# Altium integrated library altum-senior-project-large.IntLib: 23 symbols
Pins are listed as number, name and electrical type; pins without a type are passive.

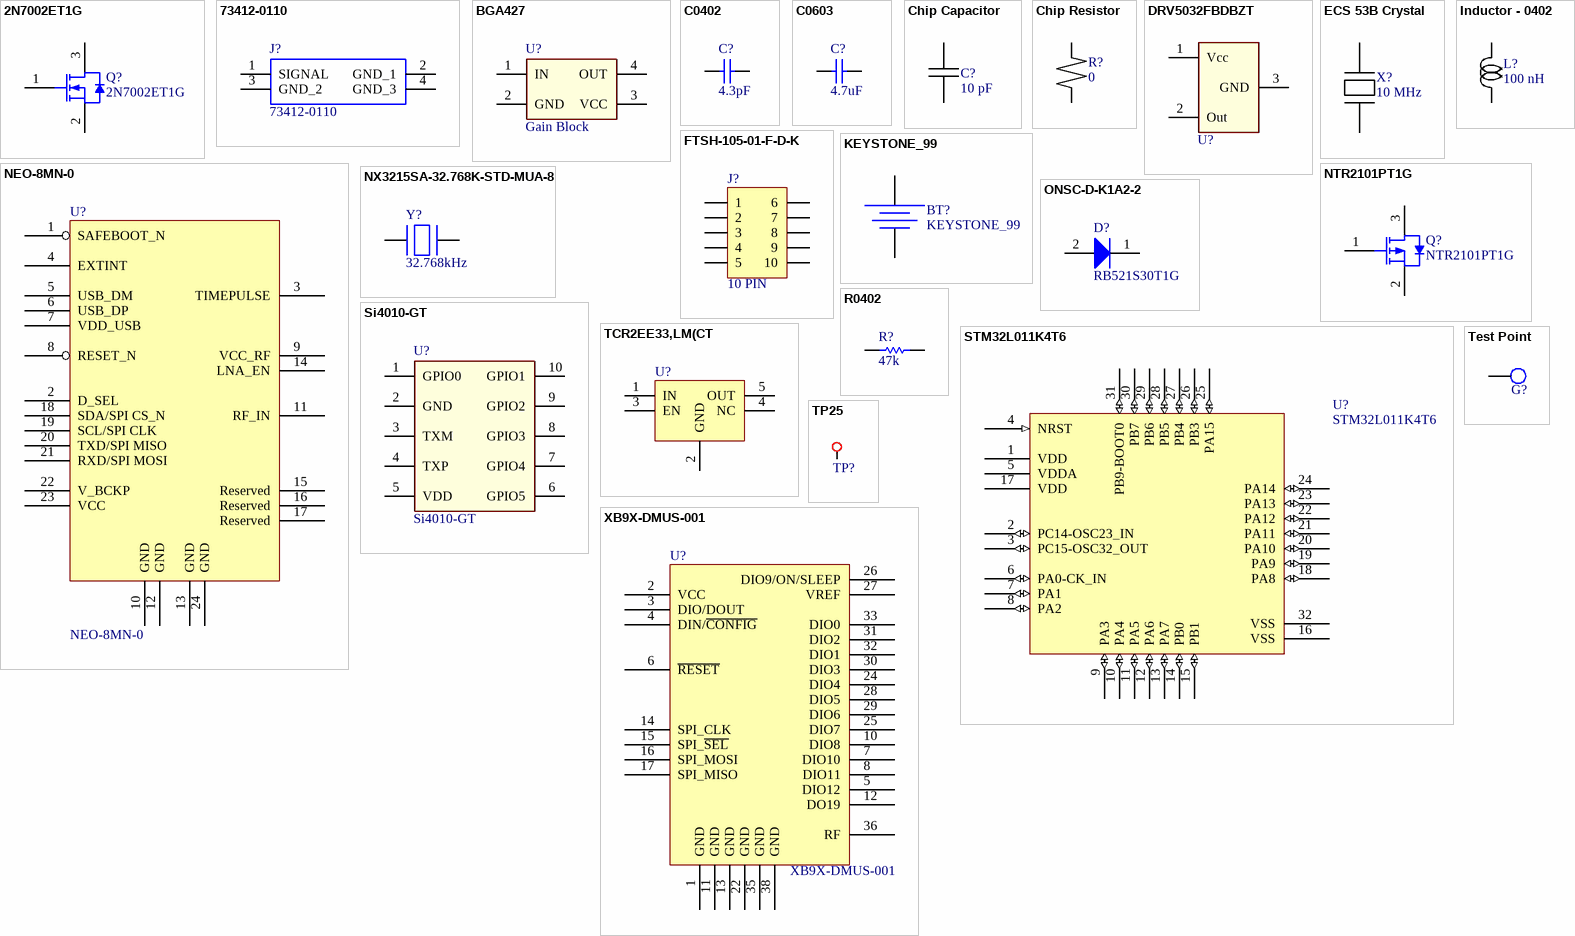
[diagram p0: symbols 2N7002ET1G to XB9X-DMUS-001]

## 2N7002ET1G
designator Q?
Small Signal MOSFET, 60 V, 310 mA, Single, N-Channel, 3-Pin SOT-23, Pb-Free, Tape and Reel; Manufacturer: On Semiconductor; Channel Polarity: N Channel; Ciss Typ (pF): 26.7; Coss Typ (pF): 4.6; Crss Typ (pF): 2.9; ID Max (A): 0.31; V(BR)DSS Min (V): 60; VGS Max (V): 20; VGS(th) Max (V): 2.5; DatasheetVersion: Rev. 3; PackageVersion: Rev. AP, 11/2009; PackageReference: SOT-23-3-318-08; PackageDescription: 3-Pin Small Outline Transistor, Body 2.92 x 1.3 mm, Pitch 0.95 mm; Supplier 1: Digi-Key; Supplier Part Number 1: 2N7002ET1GOSTR-ND; Supplier 2: Digi-Key; Supplier Part Number 2: 2N7002ET1GOSCT-ND; Supplier 3: Digi-Key; Supplier Part Number 3: 2N7002ET1GOSDKR-ND; Supplier 4: Farnell; Supplier Part Number 4: 2317895; Supplier 5: Farnell; Supplier Part Number 5: 2317616; Supplier 6: Newark; Supplier Part Number 6: 09R9861; Supplier 7: Newark; Supplier Part Number 7: 50M2216; Supplier 8: Mouser; Supplier Part Number 8: 863-2N7002ET1G; Configuration: Single; Package Type: SOT-23-3; Packing: Tape and Reel; RoHS: Pb-Free; Mounting Technology: Surface Mount; PartNumber: 2N7002ET1G; ComponentLink1Description: Manufacturer URL; ComponentLink1URL: http://www.onsemi.com/; ComponentLink2Description: Datasheet; ComponentLink2URL: http://www.onsemi.com/pub_link/Collateral/2N7002E-D.PDF; ComponentLink3Description: Package Specification; ComponentLink3URL: http://www.onsemi.cn/pub_link/Collateral/318-08.PDF
footprint ONSC-SOT-23-3-318-08_V (SOT23, 3-Leads, Body 2.92x1.3mm, Pitch 0.95mm)
pins: 1 G, 2 S, 3 D

## 73412-0110
designator J?
50 Ohms, MCRF, PCB Vertical Jack Receptacle, SMT, 1.25mm Mounted Height; Manufacturer_Name: Molex; Allied_Number: 70357960; Manufacturer_Part_Number: 73412-0110; RS Part Number: 1676350; RS Price/Stock: http://uk.rs-online.com/web/p/products/1676350; Allied Price/Stock: https://www.alliedelec.com/molex-incorporated-73412-0110/70357960/; Mouser Part Number: 538-73412-0110; Mouser Price/Stock: https://www.mouser.com/Search/Refine.aspx?Keyword=538-73412-0110; Datasheet Link: http://www.molex.com/pdm_docs/sd/734120110_sd.pdf
footprint 73412-0110
pins: 1 SIGNAL, 2 GND_1, 3 GND_2, 4 GND_3

## BGA427
designator U?, comment Gain Block
Manufacturer: Infineon; Manufacturer PN: BGA427H6327XTSA1; Value: *; Price: 0.84; Vendor: *; Vendor PN: *
footprint BGA427
pins: 1 IN, 2 GND, 3 VCC, 4 OUT

## C0402
designator C?  value 4.3pF  (hidden comment: C0402)
0402 Ceramic Chip Capacitor - Standard
simulation model CAP (Capacitor)
signal-integrity model C0402
footprint 0402cap (Chip Capacitor; Body 1.0 x 0.5 mm (LxW typ))
pins: 1, 2

## C0603
designator C?  value 4.7uF  (hidden comment: C0603)
0603 Ceramic Chip Capacitor - Standard
simulation model CAP (Capacitor)
signal-integrity model C0603
footprint 0603CAP (Chip Capacitor; Body 1.6 x 0.8 mm (LxW typ))
pins: 1, 2

## Chip Capacitor
designator C?  value 10 pF  (hidden comment: Chip Capacitor)
Manufacturer: Murata; Manufacturer PN: GCM1555C1H100FA16D; Vendor: *; Vendor PN: *; Price: 0.14
footprint Capacitor - 0402
footprint Capacitor - 0603
pins: 1, 2

## Chip Resistor
designator R?  value 0  (hidden comment: Chip Resistor)
Manufacturer: Yageo; Manufacturer PN: RC0402JR-070RL; Vendor: *; Vendor PN: *; Price: 0.1
footprint Resistor - 0402
footprint Resistor - 0603
pins: 1, 2

## DRV5032FBDBZT
designator U?  (value not drawn)
Hall Effect Sensor; Manufacturer: *; Manufacturer PN: *; Vendor: *; Vendor PN: *; Price: *
footprint SOT-23
pins: 1 Vcc, 2 Out, 3 GND

## ECS 53B Crystal
designator X?, comment value 10 MHz  (hidden comment: Crystal)
Manufacturer: ECS; Manufacturer PN: ECS-100-10-30B-CKL-TR; Vendor: *; Vendor PN: *; Price: 0.69
footprint ECS Crystal
pins: 1, 3

## FTSH-105-01-F-D-K
designator J?, comment 10 PIN
10 Pin Programming Header; Manufacturer 1: Samtec Inc.; Manufacturer Part Number 1: FTSH-105-01-F-D-K; Supplier 1: Digikey; Supplier Part Number 1: SAM8909-ND
footprint FTSH-105-01-F-D-K
pins: 1, 2, 3, 4, 5, 6, 7, 8, 9, 10

## Inductor - 0402
designator L?, comment value 100 nH  (hidden comment: 0402)
0402 Inductor; Manufacturer: TDK; Manufacturer PN: MLG1005SR10JT000; Vendor: *; Vendor PN: *; Price: 0.1
footprint Inductor - 0402
pins: 1, 2

## KEYSTONE_99
designator BT?
Manufacturer 1: Keystone Electronics; Manufacturer Part Number 1: 99; Supplier 1: Digikey; Supplier Part Number 1: 36-99-ND
footprint KEYSTONE_99
pins: 1 POS, 2 NEG

## NEO-8MN-0
designator U?
Concurrent GNSS LCC module, TCXO, Flash, SAW, LNA
footprint NEO-M8N-0
pins: 1 SAFEBOOT_N, 2 D_SEL, 3 TIMEPULSE, 4 EXTINT, 5 USB_DM, 6 USB_DP, 7 VDD_USB, 8 RESET_N, 9 VCC_RF, 10 GND, 11 RF_IN, 12 GND, 13 GND, 14 LNA_EN, 15 Reserved, 16 Reserved, 17 Reserved, 18 SDA/SPI CS_N, 19 SCL/SPI CLK, 20 TXD/SPI MISO, 21 RXD/SPI MOSI, 22 V_BCKP, 23 VCC, 24 GND

## NTR2101PT1G
designator Q?
Small Signal MOSFET, -8 V, -3.7 A, Single P-Channel, 3-Pin SOT-23, Pb-Free, Tape and Reel; Manufacturer: On Semiconductor; Channel Polarity: P Channel; Ciss Typ (pF): 1173; Coss Typ (pF): 289; Crss Typ (pF): 218; ID Max (A): 3.7; PD Max (W): 0.96; V(BR)DSS Min (V): 8; VGS(th) Max (V): 1; DatasheetVersion: Rev. 6; PackageVersion: Rev. AP, 11/2009; PackageReference: SOT-23-3-318-08; PackageDescription: 3-Pin Small Outline Transistor, Body 2.92 x 1.3 mm, Pitch 0.95 mm; Configuration: Single; Package Type: SOT-23-3; Packing: Tape and Reel; RoHS: Pb-Free; VGS Max (V): 8; Mounting Technology: Surface Mount; PartNumber: NTR2101PT1G; ComponentLink1Description: Manufacturer URL; ComponentLink1URL: http://www.onsemi.com/; ComponentLink2Description: Datasheet; ComponentLink2URL: http://www.onsemi.cn/pub_link/Collateral/NTR2101P-D.PDF; ComponentLink3Description: Package Specification; ComponentLink3URL: http://www.onsemi.cn/pub_link/Collateral/318-08.PDF
footprint ONSC-SOT-23-3-318-08_V (SOT23, 3-Leads, Body 2.92x1.3mm, Pitch 0.95mm)
pins: 1 G, 2 S, 3 D

## NX3215SA-32.768K-STD-MUA-8
designator Y?, comment 32.768kHz
NDK RTC 12.5pF Crystal SMD; Manufacturer Part Number 1: NX3215SA-32.768K-STD-MUA-8; Manufacturer 1: NDK; Supplier 1: Digikey; Supplier Part Number 1: 644-1156-1-ND
footprint 0.126" L x 0.061" W (2 PAD) (0.126" x 0.061" Crystal)
pins: 1, 2

## ONSC-D-K1A2-2
designator D?, comment RB521S30T1G
Schottky Barrier Diode, 2-Pin SOD-523, Pb-Free, Tape and Reel; Manufacturer: On Semiconductor; Configuration: Single; IFSM Max (A): 1; Mounting Technology: Surface Mount; ComponentLink1Description: Manufacturer URL; PackageReference: SOD-523-2-502-01; RoHS: TRUE; ComponentLink3Description: Package Specification; ComponentLink2Description: Datasheet; PackageVersion: Rev. E, 09/2010; PartNumber: RB521S30T1G; ComponentLink3URL: http://www.onsemi.com/pub_link/Collateral/502-01.PDF; ComponentLink1URL: http://www.onsemi.com/; PackageDescription: 2-Pin SOD, Body 1.2 x 0.8 mm; DatasheetVersion: Rev. 8; ComponentLink2URL: http://www.onsemi.cn/pub_link/Collateral/RB521S30T1-D.PDF; Packing: Tape and Reel
footprint ONSC-SOD-523-2-502-01_V (SOD, 2-Leads, Body 1.2x0.8mm)
pins: 1 K, 2 A

## R0402
designator R?  value 47k  (hidden comment: R0402)
0402 Chip Resistor - Standard; ComponentLink1URL: *
simulation model RES (Resistor)
signal-integrity model R0402
footprint 0402RES (Chip Resistor; Body 1.0 x 0.5 mm (LxW typ))
pins: 1, 2

## Si4010-GT
designator U?
Transmitter/MCU; Manufacturer: Silion Labs; Manufacturer PN: Si4010-C2-GT; Vendor: Digi-Key; Vendor PN: 336-4342-1-ND; Price: 3.75; Value: -
footprint MSOP10
pins: 1 GPIO0, 2 GND, 3 TXM, 4 TXP, 5 VDD, 6 GPIO5, 7 GPIO4, 8 GPIO3, 9 GPIO2, 10 GPIO1

## STM32L011K4T6
designator U?
STMicro ARM M0+ Microcontroller; Manufacturer_Name: STMicroelectronics; Manufacturer_Part_Number: STM32L011x3/4; Supplier_1: Digikey; Supplier_1_Part_Number: *
footprint LQFP32 (STM LQFP32)
pins: 1 VDD (power), 2 PC14-OSC23_IN (io), 3 PC15-OSC32_OUT (io), 4 NRST (in), 5 VDDA (power), 6 PA0-CK_IN (io), 7 PA1 (io), 8 PA2 (io), 9 PA3 (io), 10 PA4 (io), 11 PA5 (io), 12 PA6 (io), 13 PA7 (io), 14 PB0 (io), 15 PB1 (io), 16 VSS (power), 17 VDD (power), 18 PA8 (io), 19 PA9 (io), 20 PA10 (io), 21 PA11 (io), 22 PA12 (io), 23 PA13 (io), 24 PA14 (io), 25 PA15 (io), 26 PB3 (io), 27 PB4 (io), 28 PB5 (io), 29 PB6 (io), 30 PB7 (io), 31 PB9-BOOT0 (io), 32 VSS (power)

## TCR2EE33,LM(CT
designator U?, comment IC REG LINEAR 3.3V 200MA ESV  (value not drawn)
Linear Voltage Regulator IC Positive Fixed 1 Output  200mA ESV; Manufacturer 1: Toshiba Semiconductor and Storage; Manufacturer Part Number 1: TCR2EE33,LM(CT; Supplier 1: Digikey; Supplier Part Number 1: TCR2EE33LM(CTCT-ND; ComponentLink1Description: Datasheet; ComponentLink1URL: https://toshiba.semicon-storage.com/info/docget.jsp?did=13794&prodName=TCR2EF45
footprint TCR2EE33,LM(CT (SOT-553 / TCR2EE33,LM(CT)
pins: 1 IN, 2 GND, 3 EN "'CONTROL' ON DATASHEET", 4 NC, 5 OUT

## Test Point
designator G?  (value not drawn)
Manufacturer: *; Manufacturer PN: *; Vendor: *; Vendor PN: *; Price: *
footprint Test Point-TH
footprint Test Point-SM55
footprint Test Point-SM35
pins: 1

## TP25
designator TP?, comment TESTPOINT  (value not drawn)  (no BOM)
0.025" Round Test Point; Part Number: 1613; Part Name: Testpoint
footprint TP R25
pins: 1

## XB9X-DMUS-001
designator U?
footprint XBee/XBee-PRO
pins: 1 GND, 2 VCC, 3 DIO/DOUT, 4 DIN/~{CONFIG}, 5 DIO12, 6 ~{RESET}, 7 DIO10, 8 DIO11, 10 DIO8, 11 GND, 12 DO19, 13 GND, 14 SPI_CLK, 15 SPI_~{SEL}, 16 SPI_MOSI, 17 SPI_MISO, 22 GND, 24 DIO4, 25 DIO7, 26 DIO9/ON/SLEEP, 27 VREF, 28 DIO5, 29 DIO6, 30 DIO3, 31 DIO2, 32 DIO1, 33 DIO0, 35 GND, 36 RF, 38 GND